# Altium footprint library QFN50P500X500X100-29N-D.PcbLib: 1 footprints
Each footprint in its own frame and in the unit in brackets; x right, y up, seen from the top. Pads: shape width x height; smd on the part's side, far side on the other; paste and mask are expansions set on the pad; w line width, h text height; cw(c..) or ccw(c..) is an arc to the next point about the centre after c.
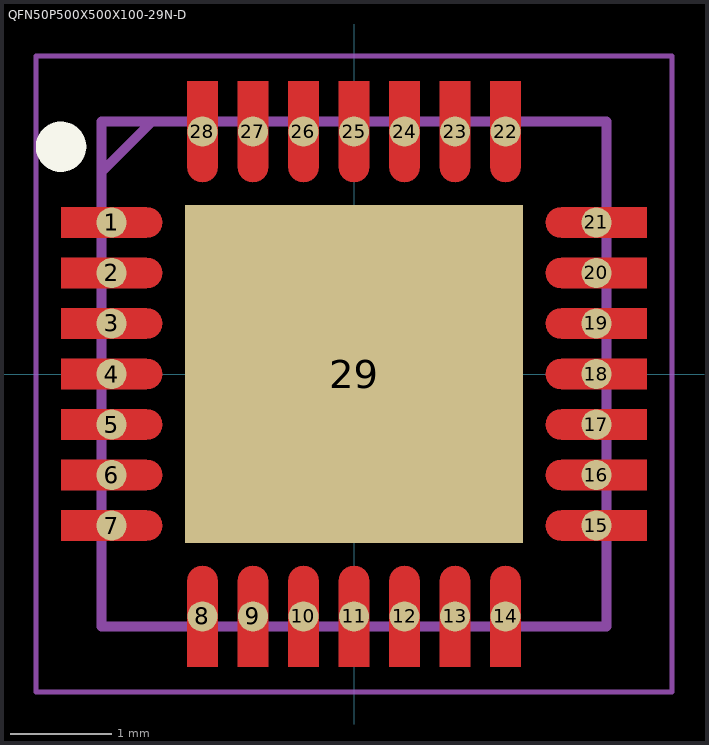
[diagram p0: the footprint, top view; thin cyan lines are the x and y axes]

## QFN50P500X500X100-29N-D [mm]
pads (29):
  round 0.3 smd: 1(-2.4,1.5) 2(-2.4,1) 3(-2.4,0.5) 4(-2.4,0) 5(-2.4,-0.5) 6(-2.4,-1) 7(-2.4,-1.5) 8(-1.5,-2.4) 9(-1,-2.4) 10(-0.5,-2.4) 11(0,-2.4) 12(0.5,-2.4) 13(1,-2.4) 14(1.5,-2.4) 15(2.4,-1.5) 16(2.4,-1) 17(2.4,-0.5) 18(2.4,0) 19(2.4,0.5) 20(2.4,1) 21(2.4,1.5) 22(1.5,2.4) 23(1,2.4) 24(0.5,2.4) 25(0,2.4) 26(-0.5,2.4) 27(-1,2.4) 28(-1.5,2.4)
  rect 3.35x3.35 smd: 29(0,0)
L1-Top Layer:
  region: -2.9,1.65 -2.05,1.65 -2.011,1.645 -1.975,1.63 -1.944,1.606 -1.92,1.575 -1.905,1.539 -1.9,1.5 -1.905,1.461 -1.92,1.425 -1.944,1.394 -1.975,1.37 -2.011,1.355 -2.05,1.35 -2.9,1.35
  region: -2.9,1.15 -2.05,1.15 -2.011,1.145 -1.975,1.13 -1.944,1.106 -1.92,1.075 -1.905,1.039 -1.9,1 -1.905,0.961 -1.92,0.925 -1.944,0.894 -1.975,0.87 -2.011,0.855 -2.05,0.85 -2.9,0.85
  region: -2.9,0.65 -2.05,0.65 -2.011,0.645 -1.975,0.63 -1.944,0.606 -1.92,0.575 -1.905,0.539 -1.9,0.5 -1.905,0.461 -1.92,0.425 -1.944,0.394 -1.975,0.37 -2.011,0.355 -2.05,0.35 -2.9,0.35
  region: -2.9,0.15 -2.05,0.15 -2.011,0.145 -1.975,0.13 -1.944,0.106 -1.92,0.075 -1.905,0.039 -1.9,0 -1.905,-0.039 -1.92,-0.075 -1.944,-0.106 -1.975,-0.13 -2.011,-0.145 -2.05,-0.15 -2.9,-0.15
  region: -2.9,-0.35 -2.05,-0.35 -2.011,-0.355 -1.975,-0.37 -1.944,-0.394 -1.92,-0.425 -1.905,-0.461 -1.9,-0.5 -1.905,-0.539 -1.92,-0.575 -1.944,-0.606 -1.975,-0.63 -2.011,-0.645 -2.05,-0.65 -2.9,-0.65
  region: -2.9,-0.85 -2.05,-0.85 -2.011,-0.855 -1.975,-0.87 -1.944,-0.894 -1.92,-0.925 -1.905,-0.961 -1.9,-1 -1.905,-1.039 -1.92,-1.075 -1.944,-1.106 -1.975,-1.13 -2.011,-1.145 -2.05,-1.15 -2.9,-1.15
  region: -2.9,-1.35 -2.05,-1.35 -2.011,-1.355 -1.975,-1.37 -1.944,-1.394 -1.92,-1.425 -1.905,-1.461 -1.9,-1.5 -1.905,-1.539 -1.92,-1.575 -1.944,-1.606 -1.975,-1.63 -2.011,-1.645 -2.05,-1.65 -2.9,-1.65
  region: -1.65,-2.9 -1.65,-2.05 -1.645,-2.011 -1.63,-1.975 -1.606,-1.944 -1.575,-1.92 -1.539,-1.905 -1.5,-1.9 -1.461,-1.905 -1.425,-1.92 -1.394,-1.944 -1.37,-1.975 -1.355,-2.011 -1.35,-2.05 -1.35,-2.9
  region: -1.15,-2.9 -1.15,-2.05 -1.145,-2.011 -1.13,-1.975 -1.106,-1.944 -1.075,-1.92 -1.039,-1.905 -1,-1.9 -0.961,-1.905 -0.925,-1.92 -0.894,-1.944 -0.87,-1.975 -0.855,-2.011 -0.85,-2.05 -0.85,-2.9
  region: -0.65,-2.9 -0.65,-2.05 -0.645,-2.011 -0.63,-1.975 -0.606,-1.944 -0.575,-1.92 -0.539,-1.905 -0.5,-1.9 -0.461,-1.905 -0.425,-1.92 -0.394,-1.944 -0.37,-1.975 -0.355,-2.011 -0.35,-2.05 -0.35,-2.9
  region: -0.15,-2.9 -0.15,-2.05 -0.145,-2.011 -0.13,-1.975 -0.106,-1.944 -0.075,-1.92 -0.039,-1.905 0,-1.9 0.039,-1.905 0.075,-1.92 0.106,-1.944 0.13,-1.975 0.145,-2.011 0.15,-2.05 0.15,-2.9
  region: 0.35,-2.9 0.35,-2.05 0.355,-2.011 0.37,-1.975 0.394,-1.944 0.425,-1.92 0.461,-1.905 0.5,-1.9 0.539,-1.905 0.575,-1.92 0.606,-1.944 0.63,-1.975 0.645,-2.011 0.65,-2.05 0.65,-2.9
  region: 0.85,-2.9 0.85,-2.05 0.855,-2.011 0.87,-1.975 0.894,-1.944 0.925,-1.92 0.961,-1.905 1,-1.9 1.039,-1.905 1.075,-1.92 1.106,-1.944 1.13,-1.975 1.145,-2.011 1.15,-2.05 1.15,-2.9
  region: 1.35,-2.9 1.35,-2.05 1.355,-2.011 1.37,-1.975 1.394,-1.944 1.425,-1.92 1.461,-1.905 1.5,-1.9 1.539,-1.905 1.575,-1.92 1.606,-1.944 1.63,-1.975 1.645,-2.011 1.65,-2.05 1.65,-2.9
  region: 2.9,-1.65 2.05,-1.65 2.011,-1.645 1.975,-1.63 1.944,-1.606 1.92,-1.575 1.905,-1.539 1.9,-1.5 1.905,-1.461 1.92,-1.425 1.944,-1.394 1.975,-1.37 2.011,-1.355 2.05,-1.35 2.9,-1.35
  region: 2.9,-1.15 2.05,-1.15 2.011,-1.145 1.975,-1.13 1.944,-1.106 1.92,-1.075 1.905,-1.039 1.9,-1 1.905,-0.961 1.92,-0.925 1.944,-0.894 1.975,-0.87 2.011,-0.855 2.05,-0.85 2.9,-0.85
  region: 2.9,-0.65 2.05,-0.65 2.011,-0.645 1.975,-0.63 1.944,-0.606 1.92,-0.575 1.905,-0.539 1.9,-0.5 1.905,-0.461 1.92,-0.425 1.944,-0.394 1.975,-0.37 2.011,-0.355 2.05,-0.35 2.9,-0.35
  region: 2.9,-0.15 2.05,-0.15 2.011,-0.145 1.975,-0.13 1.944,-0.106 1.92,-0.075 1.905,-0.039 1.9,0 1.905,0.039 1.92,0.075 1.944,0.106 1.975,0.13 2.011,0.145 2.05,0.15 2.9,0.15
  region: 2.9,0.35 2.05,0.35 2.011,0.355 1.975,0.37 1.944,0.394 1.92,0.425 1.905,0.461 1.9,0.5 1.905,0.539 1.92,0.575 1.944,0.606 1.975,0.63 2.011,0.645 2.05,0.65 2.9,0.65
  region: 2.9,0.85 2.05,0.85 2.011,0.855 1.975,0.87 1.944,0.894 1.92,0.925 1.905,0.961 1.9,1 1.905,1.039 1.92,1.075 1.944,1.106 1.975,1.13 2.011,1.145 2.05,1.15 2.9,1.15
  region: 2.9,1.35 2.05,1.35 2.011,1.355 1.975,1.37 1.944,1.394 1.92,1.425 1.905,1.461 1.9,1.5 1.905,1.539 1.92,1.575 1.944,1.606 1.975,1.63 2.011,1.645 2.05,1.65 2.9,1.65
  region: 1.65,2.9 1.65,2.05 1.645,2.011 1.63,1.975 1.606,1.944 1.575,1.92 1.539,1.905 1.5,1.9 1.461,1.905 1.425,1.92 1.394,1.944 1.37,1.975 1.355,2.011 1.35,2.05 1.35,2.9
  region: 1.15,2.9 1.15,2.05 1.145,2.011 1.13,1.975 1.106,1.944 1.075,1.92 1.039,1.905 1,1.9 0.961,1.905 0.925,1.92 0.894,1.944 0.87,1.975 0.855,2.011 0.85,2.05 0.85,2.9
  region: 0.65,2.9 0.65,2.05 0.645,2.011 0.63,1.975 0.606,1.944 0.575,1.92 0.539,1.905 0.5,1.9 0.461,1.905 0.425,1.92 0.394,1.944 0.37,1.975 0.355,2.011 0.35,2.05 0.35,2.9
  region: 0.15,2.9 0.15,2.05 0.145,2.011 0.13,1.975 0.106,1.944 0.075,1.92 0.039,1.905 0,1.9 -0.039,1.905 -0.075,1.92 -0.106,1.944 -0.13,1.975 -0.145,2.011 -0.15,2.05 -0.15,2.9
  region: -0.35,2.9 -0.35,2.05 -0.355,2.011 -0.37,1.975 -0.394,1.944 -0.425,1.92 -0.461,1.905 -0.5,1.9 -0.539,1.905 -0.575,1.92 -0.606,1.944 -0.63,1.975 -0.645,2.011 -0.65,2.05 -0.65,2.9
  region: -0.85,2.9 -0.85,2.05 -0.855,2.011 -0.87,1.975 -0.894,1.944 -0.925,1.92 -0.961,1.905 -1,1.9 -1.039,1.905 -1.075,1.92 -1.106,1.944 -1.13,1.975 -1.145,2.011 -1.15,2.05 -1.15,2.9
  region: -1.35,2.9 -1.35,2.05 -1.355,2.011 -1.37,1.975 -1.394,1.944 -1.425,1.92 -1.461,1.905 -1.5,1.9 -1.539,1.905 -1.575,1.92 -1.606,1.944 -1.63,1.975 -1.645,2.011 -1.65,2.05 -1.65,2.9
Top Overlay:
  circle w0.25: c-2.9,2.25 r0.125
Mechanical 15:
  lines w0.1: -2.5,2 -2,2.5 ; -2.5,-2.5 2.5,-2.5 2.5,2.5 -2.5,2.5 -2.5,-2.5
Mechanical 20:
  lines w0.05: -3.15,-3.15 3.15,-3.15 3.15,3.15 -3.15,3.15 -3.15,-3.15
3D body "CP2102-GMR.stp": height 5.8, standoff -4.65, extent -10,-3.376 10,3.376